# Altium footprint library supercap.PcbLib: 1 footprints
Each footprint in its own frame and in the unit in brackets; x right, y up, seen from the top. Pads: shape width x height; smd on the part's side, far side on the other; paste and mask are expansions set on the pad; w line width, h text height; cw(c..) or ccw(c..) is an arc to the next point about the centre after c.
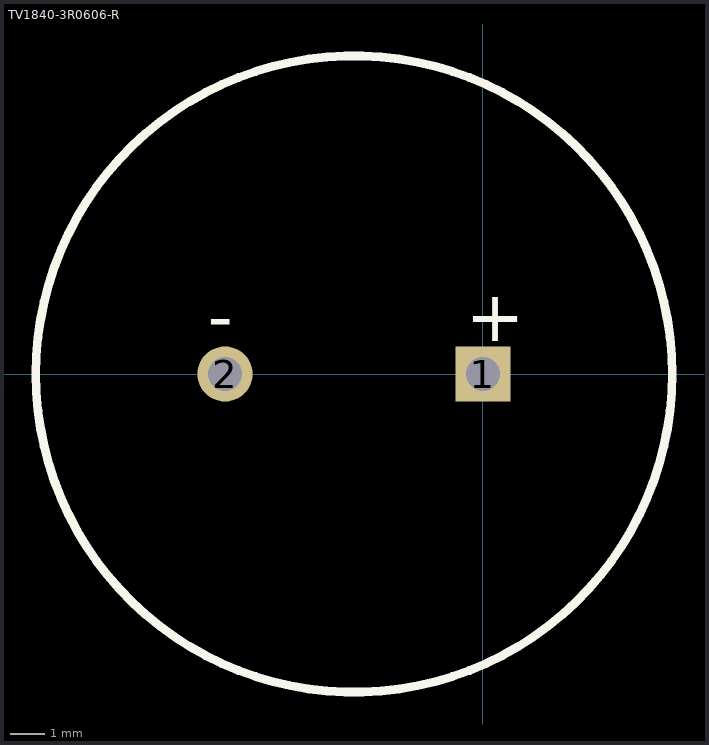
[diagram p0: the footprint, top view; thin cyan lines are the x and y axes]

## TV1840-3R0606-R [mm]
height 42
pads (2):
  rect 1.6x1.6 hole 1: 1(0,0)
  round 1.6 hole 1: 2(-7.5,0)
Top Overlay:
  circle w0.254: c-3.75,0 r9.25
  text "-" at -8.008,0.95 h1.5
  text "+" at -0.508,0.95 h1.5